# EAGLE library part 4013XLH144 (library XILINX)
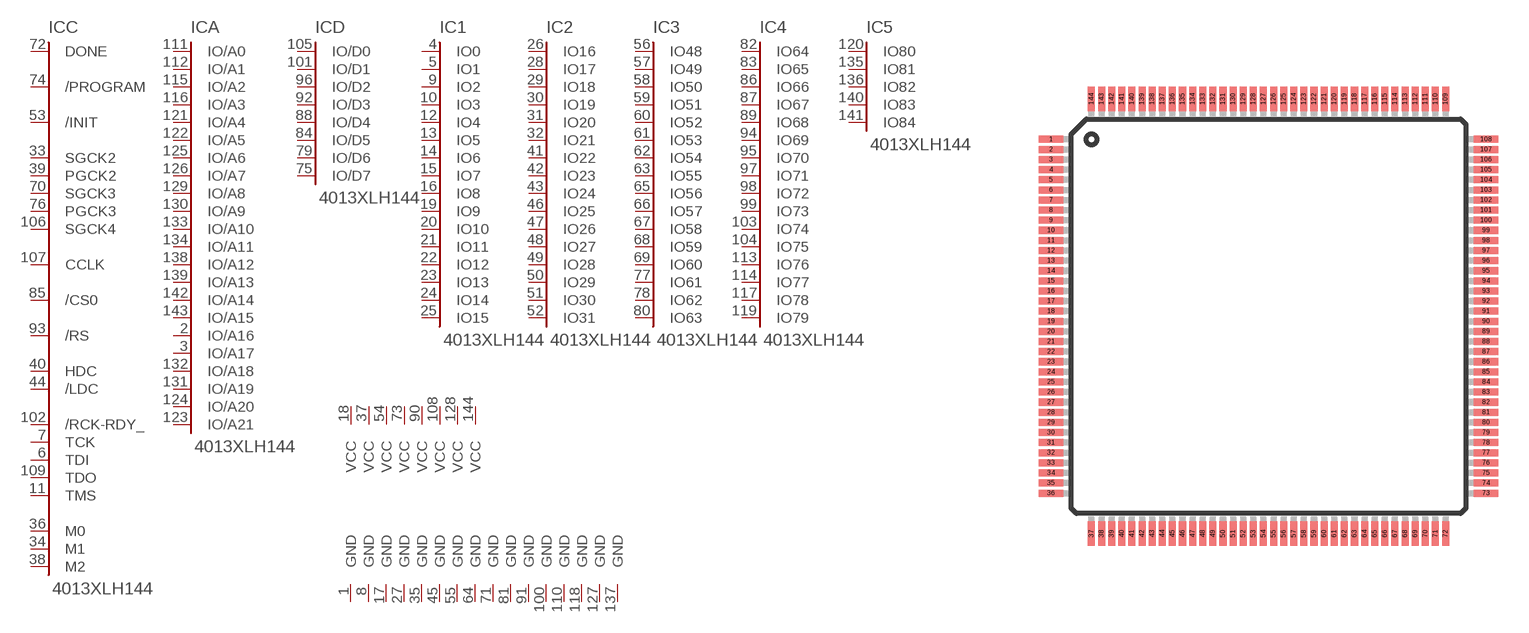
[diagram p35: symbol with the pads of TQ144; footprint TQ144]

Designator prefix IC; gates C=4003-C84 D=XC4-D 1=XC4-IO16 2=XC4-IO32 3=XC4-IO64 4=XC4-IO80 V1=VCC V2=VCC V3=VCC V4=VCC V5=VCC V6=VCC V7=VCC V8=VCC G1=GND G2=GND G3=GND G4=GND G5=GND G6=GND G7=GND G8=GND G9=GND G10=GND G11=GND G12=GND G13=GND G14=GND G15=GND G16=GND A=XC4-A 5=XC4-IO84

## 4013XLH144  [TQ144]
1  G1:GND  pwr
2  A:IO/A16
3  A:IO/A17
4  1:IO0
5  1:IO1
6  C:TDI
7  C:TCK
8  G2:GND  pwr
9  1:IO2
10  1:IO3
11  C:TMS
12  1:IO4
13  1:IO5
14  1:IO6
15  1:IO7
16  1:IO8
17  G3:GND  pwr
18  V1:VCC  pwr
19  1:IO9
20  1:IO10
21  1:IO11
22  1:IO12
23  1:IO13
24  1:IO14
25  1:IO15
26  2:IO16
27  G4:GND  pwr
28  2:IO17
29  2:IO18
30  2:IO19
31  2:IO20
32  2:IO21
33  C:SGCK2
34  C:M1  out
35  G5:GND  pwr
36  C:M0  in
37  V2:VCC  pwr
38  C:M2  in
39  C:PGCK2
40  C:HDC
41  2:IO22
42  2:IO23
43  2:IO24
44  C:/LDC
45  G6:GND  pwr
46  2:IO25
47  2:IO26
48  2:IO27
49  2:IO28
50  2:IO29
51  2:IO30
52  2:IO31
53  C:/INIT
54  V3:VCC  pwr
55  G7:GND  pwr
56  3:IO48
57  3:IO49
58  3:IO50
59  3:IO51
60  3:IO52
61  3:IO53
62  3:IO54
63  3:IO55
64  G8:GND  pwr
65  3:IO56
66  3:IO57
67  3:IO58
68  3:IO59
69  3:IO60
70  C:SGCK3
71  G9:GND  pwr
72  C:DONE
73  V4:VCC  pwr
74  C:/PROGRAM
75  D:IO/D7
76  C:PGCK3
77  3:IO61
78  3:IO62
79  D:IO/D6
80  3:IO63
81  G10:GND  pwr
82  4:IO64
83  4:IO65
84  D:IO/D5
85  C:/CS0
86  4:IO66
87  4:IO67
88  D:IO/D4
89  4:IO68
90  V5:VCC  pwr
91  G11:GND  pwr
92  D:IO/D3
93  C:/RS
94  4:IO69
95  4:IO70
96  D:IO/D2
97  4:IO71
98  4:IO72
99  4:IO73
100  G12:GND  pwr
101  D:IO/D1
102  C:/RCK-RDY_
103  4:IO74
104  4:IO75
105  D:IO/D0
106  C:SGCK4
107  C:CCLK
108  V6:VCC  pwr
109  C:TDO
110  G13:GND  pwr
111  A:IO/A0
112  A:IO/A1
113  4:IO76
114  4:IO77
115  A:IO/A2
116  A:IO/A3
117  4:IO78
118  G14:GND  pwr
119  4:IO79
120  5:IO80
121  A:IO/A4
122  A:IO/A5
123  A:IO/A21
124  A:IO/A20
125  A:IO/A6
126  A:IO/A7
127  G15:GND  pwr
128  V7:VCC  pwr
129  A:IO/A8
130  A:IO/A9
131  A:IO/A19
132  A:IO/A18
133  A:IO/A10
134  A:IO/A11
135  5:IO81
136  5:IO82
137  G16:GND  pwr
138  A:IO/A12
139  A:IO/A13
140  5:IO83
141  5:IO84
142  A:IO/A14
143  A:IO/A15
144  V8:VCC  pwr

## Footprint TQ144 (pad centres in mm)
smd 1.2 x 0.35: 1 -10.75,8.75; 2 -10.75,8.25; 3 -10.75,7.75; 4 -10.75,7.25; 5 -10.75,6.75; 6 -10.75,6.25; 7 -10.75,5.75; 8 -10.75,5.25; 9 -10.75,4.75; 10 -10.75,4.25; 11 -10.75,3.75; 12 -10.75,3.25; 13 -10.75,2.75; 14 -10.75,2.25; 15 -10.75,1.75; 16 -10.75,1.25; 17 -10.75,0.75; 18 -10.75,0.25; 19 -10.75,-0.25; 20 -10.75,-0.75; 21 -10.75,-1.25; 22 -10.75,-1.75; 23 -10.75,-2.25; 24 -10.75,-2.75; 25 -10.75,-3.25; 26 -10.75,-3.75; 27 -10.75,-4.25; 28 -10.75,-4.75; 29 -10.75,-5.25; 30 -10.75,-5.75; 31 -10.75,-6.25; 32 -10.75,-6.75; 33 -10.75,-7.25; 34 -10.75,-7.75; 35 -10.75,-8.25; 36 -10.75,-8.75; 73 10.75,-8.75; 74 10.75,-8.25; 75 10.75,-7.75; 76 10.75,-7.25; 77 10.75,-6.75; 78 10.75,-6.25; 79 10.75,-5.75; 80 10.75,-5.25; 81 10.75,-4.75; 82 10.75,-4.25; 83 10.75,-3.75; 84 10.75,-3.25; 85 10.75,-2.75; 86 10.75,-2.25; 87 10.75,-1.75; 88 10.75,-1.25; 89 10.75,-0.75; 90 10.75,-0.25; 91 10.75,0.25; 92 10.75,0.75; 93 10.75,1.25; 94 10.75,1.75; 95 10.75,2.25; 96 10.75,2.75; 97 10.75,3.25; 98 10.75,3.75; 99 10.75,4.25; 100 10.75,4.75; 101 10.75,5.25; 102 10.75,5.75; 103 10.75,6.25; 104 10.75,6.75; 105 10.75,7.25; 106 10.75,7.75; 107 10.75,8.25; 108 10.75,8.75
smd 0.35 x 1.2: 37 -8.75,-10.75; 38 -8.25,-10.75; 39 -7.75,-10.75; 40 -7.25,-10.75; 41 -6.75,-10.75; 42 -6.25,-10.75; 43 -5.75,-10.75; 44 -5.25,-10.75; 45 -4.75,-10.75; 46 -4.25,-10.75; 47 -3.75,-10.75; 48 -3.25,-10.75; 49 -2.75,-10.75; 50 -2.25,-10.75; 51 -1.75,-10.75; 52 -1.25,-10.75; 53 -0.75,-10.75; 54 -0.25,-10.75; 55 0.25,-10.75; 56 0.75,-10.75; 57 1.25,-10.75; 58 1.75,-10.75; 59 2.25,-10.75; 60 2.75,-10.75; 61 3.25,-10.75; 62 3.75,-10.75; 63 4.25,-10.75; 64 4.75,-10.75; 65 5.25,-10.75; 66 5.75,-10.75; 67 6.25,-10.75; 68 6.75,-10.75; 69 7.25,-10.75; 70 7.75,-10.75; 71 8.25,-10.75; 72 8.75,-10.75; 109 8.75,10.75; 110 8.25,10.75; 111 7.75,10.75; 112 7.25,10.75; 113 6.75,10.75; 114 6.25,10.75; 115 5.75,10.75; 116 5.25,10.75; 117 4.75,10.75; 118 4.25,10.75; 119 3.75,10.75; 120 3.25,10.75; 121 2.75,10.75; 122 2.25,10.75; 123 1.75,10.75; 124 1.25,10.75; 125 0.75,10.75; 126 0.25,10.75; 127 -0.25,10.75; 128 -0.75,10.75; 129 -1.25,10.75; 130 -1.75,10.75; 131 -2.25,10.75; 132 -2.75,10.75; 133 -3.25,10.75; 134 -3.75,10.75; 135 -4.25,10.75; 136 -4.75,10.75; 137 -5.25,10.75; 138 -5.75,10.75; 139 -6.25,10.75; 140 -6.75,10.75; 141 -7.25,10.75; 142 -7.75,10.75; 143 -8.25,10.75; 144 -8.75,10.75